# EAGLE library part SN74LVC16T245DGGR (library work)
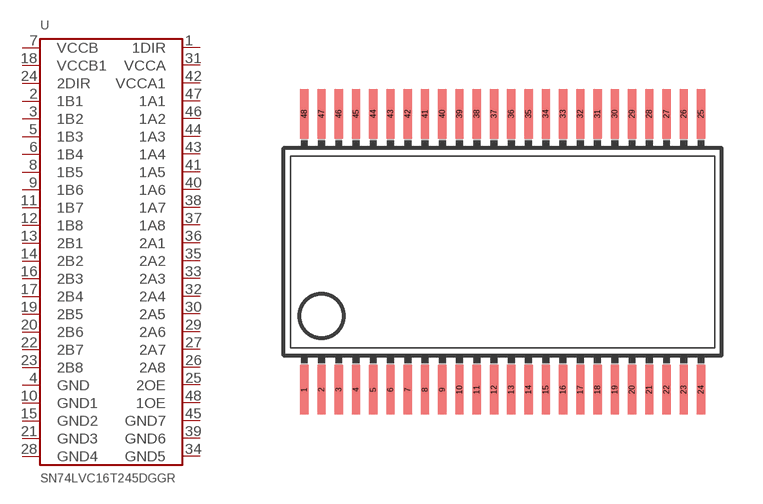
[diagram p30: symbol with the pads of SSOP48; footprint SSOP48]

Designator prefix U

## SN74LVC16T245DGGR  [SSOP48]
1  1DIR
2  1B1
3  1B2
4  GND
5  1B3
6  1B4
7  VCCB
8  1B5
9  1B6
10  GND1
11  1B7
12  1B8
13  2B1
14  2B2
15  GND2
16  2B3
17  2B4
18  VCCB1
19  2B5
20  2B6
21  GND3
22  2B7
23  2B8
24  2DIR
25  2OE
26  2A8
27  2A7
28  GND4
29  2A6
30  2A5
31  VCCA
32  2A4
33  2A3
34  GND5
35  2A2
36  2A1
37  1A8
38  1A7
39  GND6
40  1A6
41  1A5
42  VCCA1
43  1A4
44  1A3
45  GND7
46  1A2
47  1A1
48  1OE

## Footprint SSOP48 (pad centres in mm)
smd 0.305 x 1.822: 1 -7.303,-5.092; 2 -6.668,-5.092; 3 -6.032,-5.092; 4 -5.397,-5.092; 5 -4.763,-5.092; 6 -4.128,-5.092; 7 -3.493,-5.092; 8 -2.857,-5.092; 9 -2.223,-5.092; 10 -1.587,-5.092; 11 -0.953,-5.092; 12 -0.318,-5.092; 13 0.318,-5.092; 14 0.953,-5.092; 15 1.587,-5.092; 16 2.223,-5.092; 17 2.857,-5.092; 18 3.493,-5.092; 19 4.128,-5.092; 20 4.763,-5.092; 21 5.397,-5.092; 22 6.032,-5.092; 23 6.668,-5.092; 24 7.303,-5.092; 25 7.303,5.062; 26 6.668,5.062; 27 6.032,5.062; 28 5.397,5.062; 29 4.763,5.062; 30 4.128,5.062; 31 3.493,5.062; 32 2.857,5.062; 33 2.223,5.062; 34 1.587,5.062; 35 0.953,5.062; 36 0.318,5.062; 37 -0.318,5.062; 38 -0.953,5.062; 39 -1.587,5.062; 40 -2.223,5.062; 41 -2.857,5.062; 42 -3.493,5.062; 43 -4.128,5.062; 44 -4.763,5.062; 45 -5.397,5.062; 46 -6.032,5.062; 47 -6.668,5.062; 48 -7.303,5.062